# Altium footprint library C0805.PcbLib: 1 footprints
Each footprint in its own frame and in the unit in brackets; x right, y up, seen from the top. Pads: shape width x height; smd on the part's side, far side on the other; paste and mask are expansions set on the pad; w line width, h text height; cw(c..) or ccw(c..) is an arc to the next point about the centre after c.
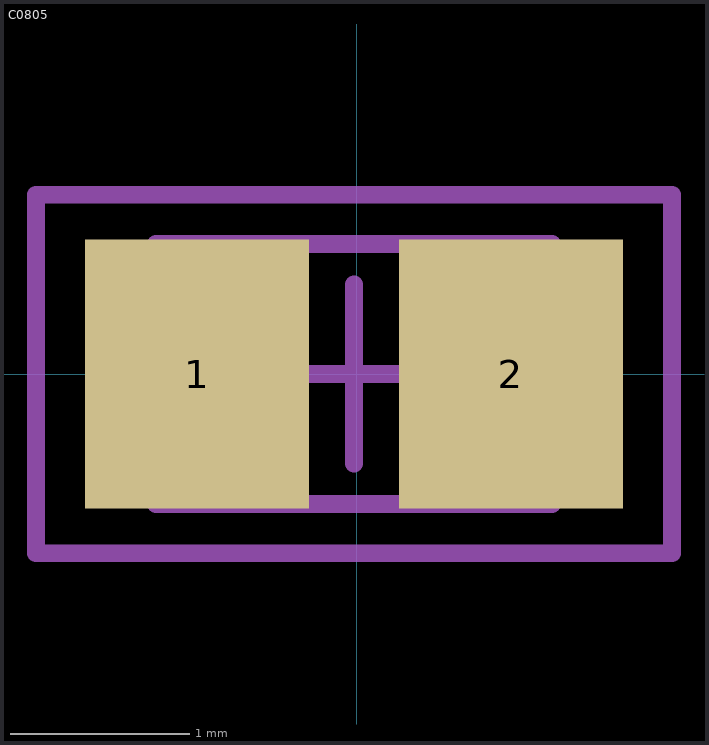
[diagram p0: the footprint, top view; thin cyan lines are the x and y axes]

## C0805 [mm] "KEMET - C0805C104K5RACTU - CAPACITOR, 0805, 100NF, 50V, X7R"
height 0.87
pads (2):
  rect 1.25x1.5 smd: 1(-0.889,0) 2(0.861,0)
Mechanical 13:
  lines w0.1: -1.119,-0.725 1.091,-0.725 1.091,0.725 -1.119,0.725 -1.119,-0.725
Mechanical 15:
  lines w0.1: -0.514,0 -0.264,0 0.236,0 0.486,0 ; -0.014,-0.5 -0.014,0.5 ; -1.789,-1 1.761,-1 1.761,1 -1.789,1 -1.789,-1
3D body: height 1, standoff 0, extent -1.119,-0.725 1.091,0.725